# EAGLE library part PCIE_SOCKET (library tide_clock)
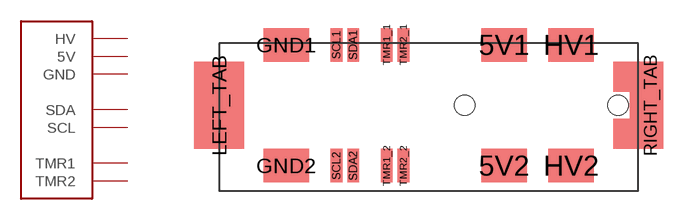
[diagram p6: symbol with the pads of PCIE_SOCKET; footprint PCIE_SOCKET]

Designator prefix JP

## PCIE_SOCKET  [PCIE_SOCKET]
5V1  5V  pas
5V2  5V  pas
GND1  GND  pas
GND2  GND  pas
HV1  HV  pas
HV2  HV  pas
SCL1  SCL
SCL2  SCL
SDA1  SDA
SDA2  SDA
TMR1_1  TMR1
TMR1_2  TMR1
TMR2_1  TMR2
TMR2_2  TMR2

## Footprint PCIE_SOCKET (pad centres in mm)
smd 2.7 x 2: 5V1 2.5,3.6; 5V2 2.5,-3.6; GND1 -10.5,3.6; GND2 -10.5,-3.6; HV1 6.5,3.6; HV2 6.5,-3.6
smd 3 x 5.2: LEFT_TAB -14.5,0
smd 1.5 x 5.2: RIGHT_TAB 11.25,0
smd 0.7 x 2: SCL1 -7.5,3.6; SCL2 -7.5,-3.6; SDA1 -6.5,3.6; SDA2 -6.5,-3.6; TMR1_1 -4.5,3.6; TMR1_2 -4.5,-3.6; TMR2_1 -3.5,3.6; TMR2_2 -3.5,-3.6
hole 1.2 at 0.15,0
hole 1.2 at 9.3,0